# EAGLE library part MC14551BDG (library On Semiconductor)
Quad 2-Channel Analog Multiplexer/Demultiplexer
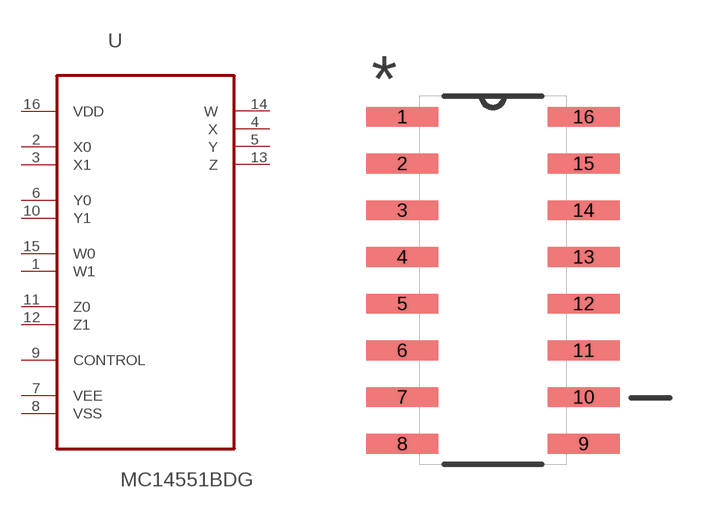
[diagram p299: symbol with the pads of SOIC127P600X175-16N; footprint SOIC127P600X175-16N]

Designator prefix U

## MC14551BDG (MPN: MC14551BDG; OC_FARNELL: 9665242; OC_NEWARK: 71J5501; PACKAGE: SOIC-16; SUPPLIER: ON SEMICONDUCTOR)  [SOIC127P600X175-16N]
1  W1
2  X0
3  X1
4  X
5  Y
6  Y0
7  VEE  pwr
8  VSS  pwr
9  CONTROL  in
10  Y1
11  Z0
12  Z1
13  Z
14  W
15  W0
16  VDD  pwr

## Footprint SOIC127P600X175-16N (pad centres in mm)
smd 1.956 x 0.533: 1 -2.464,4.445; 2 -2.464,3.175; 3 -2.464,1.905; 4 -2.464,0.635; 5 -2.464,-0.635; 6 -2.464,-1.905; 7 -2.464,-3.175; 8 -2.464,-4.445; 9 2.464,-4.445; 10 2.464,-3.175; 11 2.464,-1.905; 12 2.464,-0.635; 13 2.464,0.635; 14 2.464,1.905; 15 2.464,3.175; 16 2.464,4.445